# Altium footprint library Standard Footprints.PcbLib: 40 footprints (part 2 of 3)
Each footprint in its own frame and in the unit in brackets; x right, y up, seen from the top. Pads: shape width x height; smd on the part's side, far side on the other; paste and mask are expansions set on the pad; w line width, h text height; cw(c..) or ccw(c..) is an arc to the next point about the centre after c.
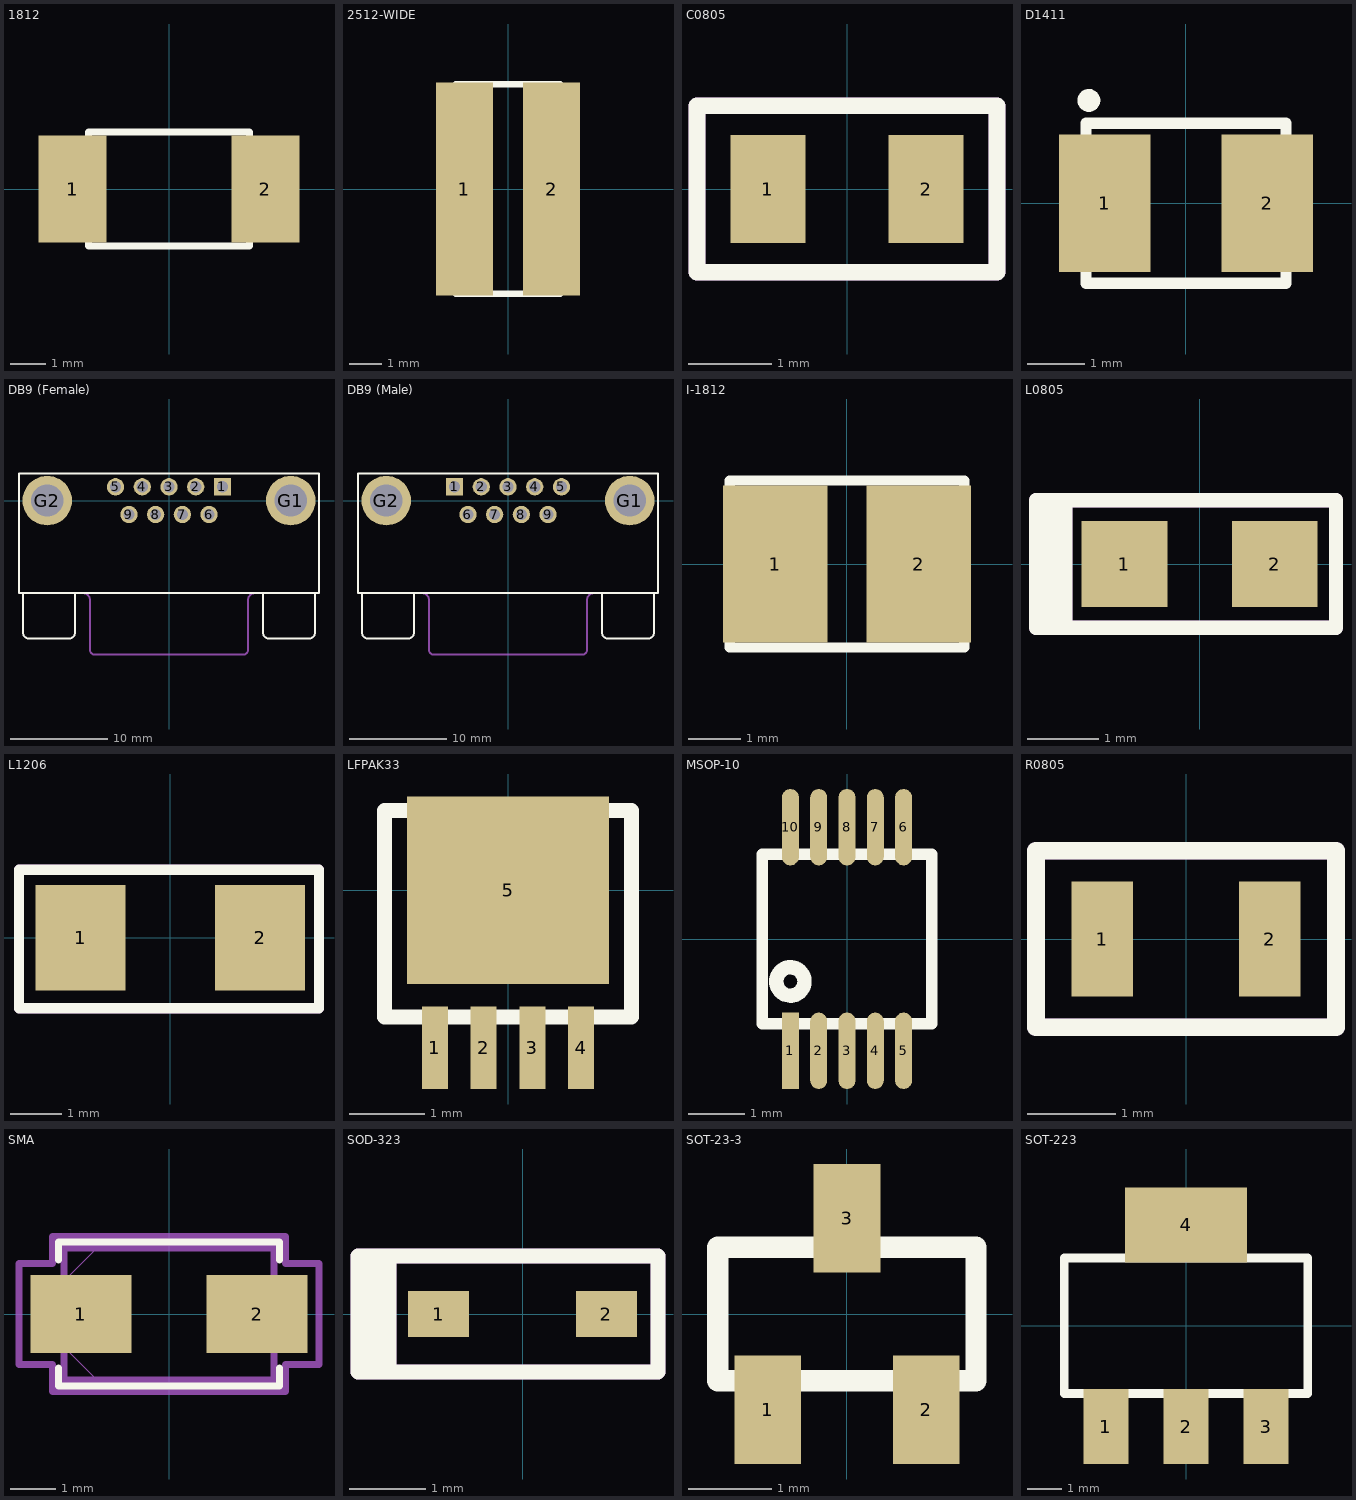
[diagram p1: the footprints below, top view; thin cyan lines are the x and y axes]

## 1812 [mm]
pads (2):
  rect 1.9x3 smd: 1(-2.7,0) 2(2.7,0)
Top Overlay:
  lines w0.2: -2.25,-1.6 -2.25,1.6 2.25,1.6 2.25,-1.6 -2.25,-1.6
3D body "7427925_Download_STP_WE-CBF-1812_rev1.stp": height 1.51, standoff 0.01, extent -2.25,-1.6 2.25,1.6

## 2512-WIDE [mm]
pads (2):
  rect 1.73x6.5 smd: 1(-1.33,0) 2(1.33,0)
Top Overlay:
  lines w0.2: -1.6,-3.2 -1.6,3.2 1.6,3.2 1.6,-3.2 -1.6,-3.2

## C0805 [mm]
pads (2):
  rect 0.9x1.3 smd: 1(-0.95,0) 2(0.95,0)
Top Overlay:
  lines w0.2: -1.8,-1 -1.8,1 1.8,1 1.8,-1 -1.8,-1
Mechanical 5:
  lines w0.2: -1.8,-1 1.8,-1 1.8,1 -1.8,1 -1.8,-1
  text "'.Designator'" at -1.6,-0.102 h0.3
3D body "C0805.step": height 0.94, standoff 0, extent -1.054,-0.673 1.054,0.673

## D1411 [mm]
pads (2):
  rect 1.6x2.4 smd: 1(-1.425,0) 2(1.425,0)
Top Overlay:
  circle w0.2: c-1.7,1.8 r0.1
  lines w0.2: -1.75,-1.4 1.75,-1.4 1.75,1.4 -1.75,1.4 -1.75,-1.4
3D body "150141AS73100_Download_STP_WL-SMTW-3528_rev1.stp": height 1.91, standoff 0.01, extent -1.75,-1.4 1.75,1.4

## DB9 (Female) [mil]
pads (11):
  rect 70x70 hole 45: 1(216,56)
  round 70 hole 45: 2(108,56) 3(0,56) 4(-108,56) 5(-216,56) 6(162,-56) 7(54,-56) 8(-54,-56) 9(-162,-56)
  round 200 hole 130: G1(492,0) G2(-492,0)
Top Overlay:
  lines w8: -590,-375 -590,-533 ccw(c-565,-533) -565,-558 -405,-558 ccw(c-405,-533) -380,-533 -380,-375 ; 380,-375 380,-533 ccw(c405,-533) 405,-558 565,-558 ccw(c565,-533) 590,-533 590,-375 ; -606.3,-374.02 -606.3,110.24 606.3,110.24 606.3,-374.02 -606.3,-374.02
Mechanical 13:
  lines w8: -320,-602.32 ccw(c-300,-602.32) -300,-622.32 ; -320,-602.32 ccw(c-300,-602.32) -300,-622.32 ; -320,-602.32 -320,-402.32 -320,-602.32 ; -300,-622.32 300,-622.32 ; -300,-622.32 300,-622.32 ; 300,-622.32 ccw(c300,-602.32) 320,-602.32 ; 300,-622.32 ccw(c300,-602.32) 320,-602.32 ; 320,-602.32 320,-402.32 320,-602.32 ; -344.79,-374.03 cw(c-346.65,-400.67) -320.01,-402.53 ccw(c-346.65,-400.67) -344.79,-374.03 ; 320.01,-402.53 cw(c346.65,-400.67) 344.79,-374.03 ccw(c346.65,-400.67) 320.01,-402.53
3D body "DB9 - 203-09SCKKBE.STEP": height 492.62, standoff -176.67, extent -606.49,-620.07 606.5,110.24

## DB9 (Male) [mil]
pads (11):
  rect 70x70 hole 45: 1(-216,56)
  round 70 hole 45: 2(-108,56) 3(0,56) 4(108,56) 5(216,56) 6(-162,-56) 7(-54,-56) 8(54,-56) 9(162,-56)
  round 200 hole 130: G1(492,0) G2(-492,0)
Top Overlay:
  lines w8: -590,-375 -590,-533 ccw(c-565,-533) -565,-558 -405,-558 ccw(c-405,-533) -380,-533 -380,-375 ; 380,-375 380,-533 ccw(c405,-533) 405,-558 565,-558 ccw(c565,-533) 590,-533 590,-375 ; -606.3,-374.02 -606.3,110.24 606.3,110.24 606.3,-374.02 -606.3,-374.02
Mechanical 13:
  lines w8: -320,-602.32 ccw(c-300,-602.32) -300,-622.32 ; -320,-602.32 ccw(c-300,-602.32) -300,-622.32 ; -320,-602.32 -320,-402.32 -320,-602.32 ; -300,-622.32 300,-622.32 ; -300,-622.32 300,-622.32 ; 300,-622.32 ccw(c300,-602.32) 320,-602.32 ; 300,-622.32 ccw(c300,-602.32) 320,-602.32 ; 320,-602.32 320,-402.32 320,-602.32 ; -344.79,-374.03 cw(c-346.65,-400.67) -320.01,-402.53 ccw(c-346.65,-400.67) -344.79,-374.03 ; 320.01,-402.53 cw(c346.65,-400.67) 344.79,-374.03 ccw(c346.65,-400.67) 320.01,-402.53
3D body "c-747840-6-ac-3d.stp": height 482.9, standoff -139.5, extent -611,-610.23 611,122.17

## I-1812 [mm]
pads (2):
  rect 2x3 smd: 1(-1.375,0) 2(1.375,0)
Top Overlay:
  lines w0.2: -2.25,-1.6 -2.25,1.6 0,1.6 2.25,1.6 2.25,-1.6 -2.25,-1.6

## L0805 [mm]
pads (2):
  rect 1.2x1.2 smd: 1(-1.05,0) 2(1.05,0)
Top Overlay:
  rectangle: -2.286,-0.889 -1.778,0.889
  lines w0.2: -2.286,-0.889 -2.286,0.889 1.905,0.889 1.905,-0.889 -2.286,-0.889
Mechanical 5:
  rectangle: -2.286,-0.889 -1.778,0.889
  lines w0.2: -2.286,-0.889 1.905,-0.889 1.905,0.889 -2.286,0.889 -2.286,-0.889
  text "'.Designator'" at -1.524,-0.305 h0.5
3D body "L0805.step": height 0.82, standoff 0, extent -1,-0.625 1,0.625

## L1206 [mm]
pads (2):
  rect 1.76x2.06 smd: 1(-1.75,0) 2(1.75,0)
Top Overlay:
  lines w0.2: -2.95,-1.375 2.9,-1.375 2.9,1.325 -2.95,1.325 -2.95,-1.375
Mechanical 5:
  lines w0.2: -2.95,-1.375 2.9,-1.375 2.9,1.325 -2.95,1.325 -2.95,-1.375
  text "'.Designator'" at -1.499,-0.127 h0.3
3D body "1206 SMD Resistor.step": height 1.01, standoff 0.01, extent -1.6,-0.8 1.6,0.8
3D body: height 2.54, standoff -2.54, extent 0,0 0,0

## LFPAK33 [mm]
pads (5):
  rect 0.35x1.1 smd: 1(-0.975,-2.1) 2(-0.325,-2.1) 3(0.325,-2.1) 4(0.975,-2.1)
  rect 2.7x2.5 smd: 5(0,0)
Top Overlay:
  lines w0.2: -1.65,-1.687 -1.65,1.065 1.65,1.065 1.65,-1.687 -1.65,-1.687

## MSOP-10 [mm]
pads (10):
  rect 0.3x1.35 smd: 1(-1,-1.975)
  oval 0.3x1.35 smd: 2(-0.5,-1.975) 3(0,-1.975) 4(0.5,-1.975) 5(1,-1.975) 6(1,1.975) 7(0.5,1.975) 8(0,1.975) 9(-0.5,1.975) 10(-1,1.975)
Top Overlay:
  circle w0.254: c-1,-0.75 r0.25
  lines w0.2: -1.5,-1.5 -1.5,1.5 1.5,1.5 1.5,-1.5 -1.5,-1.5

## R0805 [mm]
pads (2):
  rect 0.7x1.3 smd: 1(-0.95,0) 2(0.95,0)
Top Overlay:
  lines w0.2: -1.7,-1 1.7,-1 1.7,1 -1.7,1 -1.7,-1
Mechanical 5:
  lines w0.2: -1.7,-1 -1.7,1 1.7,1 1.7,-1 -1.7,-1
  text "'.Designator'" at -1.499,-0.127 h0.3
3D body "RESC-0805.stp": height 0.6, standoff 0, extent -1.05,-0.675 1.05,0.675

## SMA [mil]
pads (2):
  rect 87x67 smd: 1(-76,0) 2(76,0)
Top Overlay:
  lines w6: -95.5,-46.6 -95.5,-62 95.5,-62 95.5,-46.6 ; -95.5,46.6 -95.5,62 95.5,62 95.5,46.6
Mechanical 1:
  lines w1: -90.5,-28.5 -62,-57 ; -90.5,28.5 -62,57 ; -105.5,-32.5 -90.5,-32.5 -90.5,32.5 -105.5,32.5 -105.5,-32.5 ; -90.5,-57 -90.5,57 90.5,57 90.5,-57 -90.5,-57 ; 90.5,-32.5 105.5,-32.5 105.5,32.5 90.5,32.5 90.5,-32.5
Mechanical 16:
  lines w6: -129.5,-43.5 -100.5,-43.5 -100.5,-67 100.5,-67 100.5,-43.5 129.5,-43.5 129.5,43.5 100.5,43.5 100.5,67 -100.5,67 -100.5,43.5 -129.5,43.5 -129.5,-43.5 ; -90.5,-57 90.5,-57 90.5,57 -90.5,57 -90.5,-57

## SOD-323 [mm] "SOD, 2-Leads, Body 1.7x1.25mm"
height 1.062
pads (2):
  rect 0.8x0.6 smd: 1(-1.1,0) 2(1.1,0)
Top Overlay:
  rectangle: -2.159,-0.762 -1.651,0.762
  lines w0.2: -2.159,-0.762 1.778,-0.762 1.778,0.762 -2.159,0.762 -2.159,-0.762
Mechanical 5:
  rectangle: -2.159,-0.762 -1.651,0.762
  lines w0.2: -2.159,-0.762 -2.159,0.762 1.778,0.762 1.778,-0.762 -2.159,-0.762
  text "'.Designator'" at -1.524,-0.381 h0.5
3D body "SOD-323.STEP": height 1.1, standoff 0, extent -1.3,-0.675 1.3,0.675

## SOT-23-3 [mm]
pads (3):
  rect 0.8x1.3 smd: 1(-0.95,-1.15) 2(0.95,-1.15) 3(0,1.15)
Top Overlay:
  lines w0.254: -1.55,-0.8 1.55,-0.8 1.55,0.8 -1.55,0.8 -1.55,-0.8
3D body "SOT23-3.stp": height 1.2, standoff 0.02, extent -1.5,-1.418 1.5,1.418

## SOT-223 [mm]
pads (4):
  rect 1.3x2.15 smd: 1(-2.3,-2.9) 2(0,-2.9) 3(2.3,-2.9)
  rect 3.5x2.15 smd: 4(0,2.9)
Top Overlay:
  lines w0.254: -3.5,-1.95 3.5,-1.95 3.5,1.95 -3.5,1.95 -3.5,-1.95
3D body "sot223_p2-3_l6-7_w3-7.stp": height 1.71, standoff -0.09, extent -3.35,-3.652 3.35,3.648